# EAGLE library part MICS-SMD26 (library rapid_3.5mm_jack)
CONNECTOR
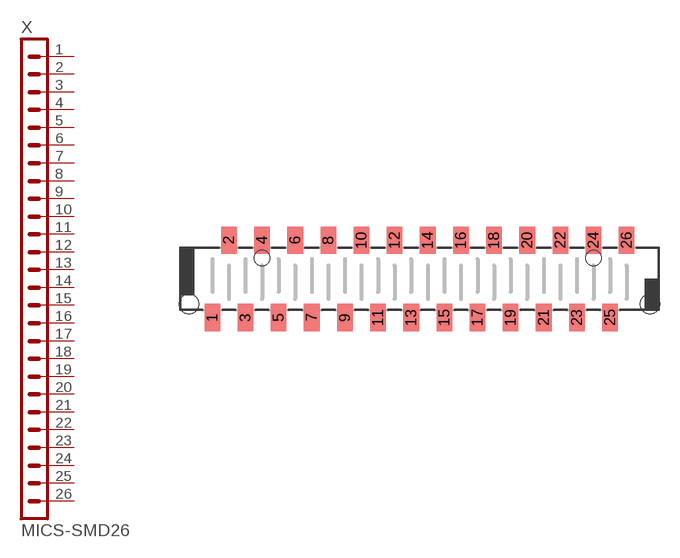
[diagram p18: symbol with the pads of MICSMD26; footprint MICSMD26]

Designator prefix X

## MICS-SMD26 (OC_FARNELL: unknown; OC_NEWARK: unknown)  [MICSMD26]
1  1  pas
2  2  pas
3  3  pas
4  4  pas
5  5  pas
6  6  pas
7  7  pas
8  8  pas
9  9  pas
10  10  pas
11  11  pas
12  12  pas
13  13  pas
14  14  pas
15  15  pas
16  16  pas
17  17  pas
18  18  pas
19  19  pas
20  20  pas
21  21  pas
22  22  pas
23  23  pas
24  24  pas
25  25  pas
26  26  pas

## Footprint MICSMD26 (pad centres in mm)
CONNECTOR
smd 1.2 x 2.1: 1 -15.875,-2.959; 2 -14.605,2.959; 3 -13.335,-2.959; 4 -12.065,2.959; 5 -10.795,-2.959; 6 -9.525,2.959; 7 -8.255,-2.959; 8 -6.985,2.959; 9 -5.715,-2.959; 10 -4.445,2.959; 11 -3.175,-2.959; 12 -1.905,2.959; 13 -0.635,-2.959; 14 0.635,2.959; 15 1.905,-2.959; 16 3.175,2.959; 17 4.445,-2.959; 18 5.715,2.959; 19 6.985,-2.959; 20 8.255,2.959; 21 9.525,-2.959; 22 10.795,2.959; 23 12.065,-2.959; 24 13.335,2.959; 25 14.605,-2.959; 26 15.875,2.959
hole 1.5 at 17.675,-1.912
hole 1.5 at -17.675,-1.912
hole 1.2 at -12.065,1.6
hole 1.2 at 13.335,1.6